# Altium footprint library PushButtons.PcbLib: 2 footprints
Each footprint in its own frame and in the unit in brackets; x right, y up, seen from the top. Pads: shape width x height; smd on the part's side, far side on the other; paste and mask are expansions set on the pad; w line width, h text height; cw(c..) or ccw(c..) is an arc to the next point about the centre after c.
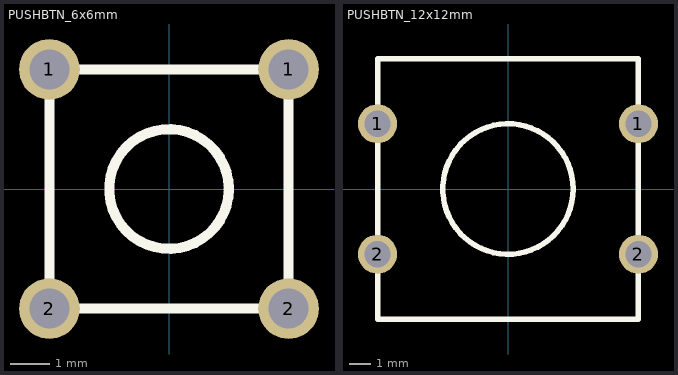
[diagram p0: the footprints below, top view; thin cyan lines are the x and y axes]

## PUSHBTN_6x6mm [mm] "6x6mm Square Push Button"
height 7
pads (4):
  round 1.524 hole 1: 1(-3,3) 1(3,3) 2(-3,-3) 2(3,-3)
Top Overlay:
  circle w0.254: c0,0 r1.5
  lines w0.254: -3,-3 3,-3 3,3 -3,3 -3,-3

## PUSHBTN_12x12mm [mm] "12x12mm Square push button"
height 8
pads (4):
  round 1.8 hole 1.2: 1(-6,3) 1(6,3) 2(-6,-3) 2(6,-3)
Top Overlay:
  circle w0.254: c0,0 r3
  lines w0.254: -6,-6 -6,6 6,6 6,-6 -6,-6